# Altium schematic symbol library PCA9539RPW_Q900J.SchLib: 1 symbol
Pins are listed as number, name and electrical type; pins without a type are passive.

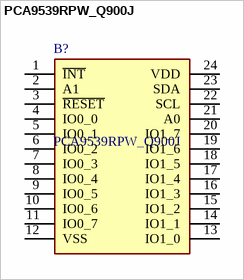
[diagram p0: symbol PCA9539RPW_Q900J]

## PCA9539RPW_Q900J
designator B?
Interface - I/O Expanders 16-bit I2C-bus and SMBus low power I/O port with interrupt and reset; Manufacturer_Name: NXP; Manufacturer_Part_Number: PCA9539RPW/Q900J; Geometry.Height: 1.1mm; Mouser Part Number: 771-PCA9539RPW/Q900J; Mouser Price/Stock: https://www.mouser.co.uk/ProductDetail/NXP-Semiconductors/PCA9539RPW-Q900J?qs=HXFqYaX1Q2xW7PmDtFxd6w%3D%3D; Datasheet Link: http://www.nxp.com/docs/en/data-sheet/PCA9539_PCA9539R.pdf
footprint SOP65P640X110-24N
pins: 1 ~{INT}, 2 A1, 3 ~{RESET}, 4 IO0_0, 5 IO0_1, 6 IO0_2, 7 IO0_3, 8 IO0_4, 9 IO0_5, 10 IO0_6, 11 IO0_7, 12 VSS, 13 IO1_0, 14 IO1_1, 15 IO1_2, 16 IO1_3, 17 IO1_4, 18 IO1_5, 19 IO1_6, 20 IO1_7, 21 A0, 22 SCL, 23 SDA, 24 VDD